# EAGLE library part MT48H32M16LF (library kwoo)
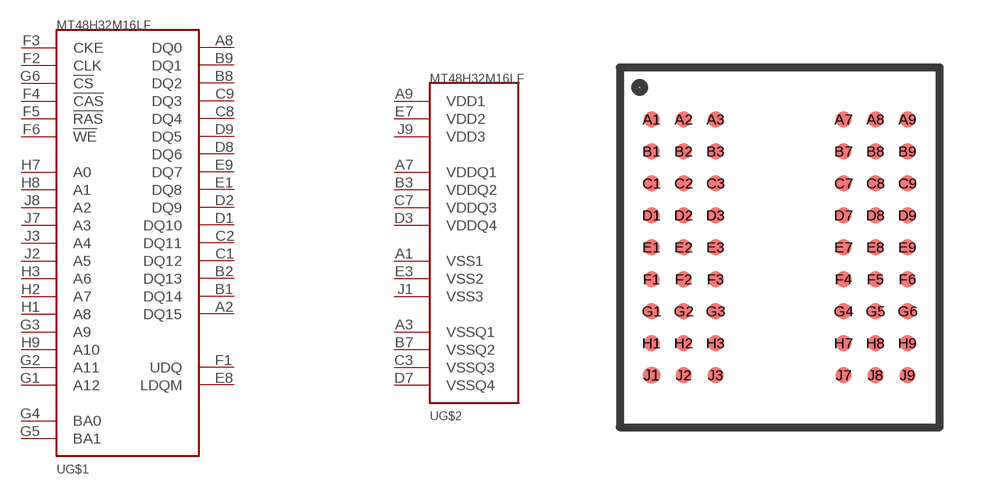
[diagram p26: symbol with the pads of 54-VFBGA; footprint 54-VFBGA]

Designator prefix -; gates G$1=MT48H32M16LF G$2=MT48H32M16LF-P

## MT48H32M16LF  [54-VFBGA]
A1  G$2:VSS1
A2  G$1:DQ15
A3  G$2:VSSQ1
A7  G$2:VDDQ1
A8  G$1:DQ0
A9  G$2:VDD1
B1  G$1:DQ14
B2  G$1:DQ13
B3  G$2:VDDQ2
B7  G$2:VSSQ2
B8  G$1:DQ2
B9  G$1:DQ1
C1  G$1:DQ12
C2  G$1:DQ11
C3  G$2:VSSQ3
C7  G$2:VDDQ3
C8  G$1:DQ4
C9  G$1:DQ3
D1  G$1:DQ10
D2  G$1:DQ9
D3  G$2:VDDQ4
D7  G$2:VSSQ4
D8  G$1:DQ6
D9  G$1:DQ5
E1  G$1:DQ8
E3  G$2:VSS2
E7  G$2:VDD2
E8  G$1:LDQM
E9  G$1:DQ7
F1  G$1:UDQ
F2  G$1:CLK
F3  G$1:CKE
F4  G$1:!CAS
F5  G$1:!RAS
F6  G$1:!WE
G1  G$1:A12
G2  G$1:A11
G3  G$1:A9
G4  G$1:BA0
G5  G$1:BA1
G6  G$1:!CS
H1  G$1:A8
H2  G$1:A7
H3  G$1:A6
H7  G$1:A0
H8  G$1:A1
H9  G$1:A10
J1  G$2:VSS3
J2  G$1:A5
J3  G$1:A4
J7  G$1:A3
J8  G$1:A2
J9  G$2:VDD3

## Footprint 54-VFBGA (pad centres in mm)
54 Ball VFBGA package. Taken from the Micron Datasheet for the MT48H32M16LFBF.
smd 0.4 x 0.4: A1 -3.2,3.2; A2 -2.4,3.2; A3 -1.6,3.2; A7 1.6,3.2; A8 2.4,3.2; A9 3.2,3.2; B1 -3.2,2.4; B2 -2.4,2.4; B3 -1.6,2.4; B7 1.6,2.4; B8 2.4,2.4; B9 3.2,2.4; C1 -3.2,1.6; C2 -2.4,1.6; C3 -1.6,1.6; C7 1.6,1.6; C8 2.4,1.6; C9 3.2,1.6; D1 -3.2,0.8; D2 -2.4,0.8; D3 -1.6,0.8; D7 1.6,0.8; D8 2.4,0.8; D9 3.2,0.8; E1 -3.2,0; E2 -2.4,0; E3 -1.6,0; E7 1.6,0; E8 2.4,0; E9 3.2,0; F1 -3.2,-0.8; F2 -2.4,-0.8; F3 -1.6,-0.8; F4 1.6,-0.8; F5 2.4,-0.8; F6 3.2,-0.8; G1 -3.2,-1.6; G2 -2.4,-1.6; G3 -1.6,-1.6; G4 1.6,-1.6; G5 2.4,-1.6; G6 3.2,-1.6; H1 -3.2,-2.4; H2 -2.4,-2.4; H3 -1.6,-2.4; H7 1.6,-2.4; H8 2.4,-2.4; H9 3.2,-2.4; J2 -2.4,-3.2; J3 -1.6,-3.2; J7 1.6,-3.2; J8 2.4,-3.2; J9 3.2,-3.2
smd 0.45 x 0.4: J1 -3.2,-3.2